# EAGLE library part 74AVC4T245 (library NXP)
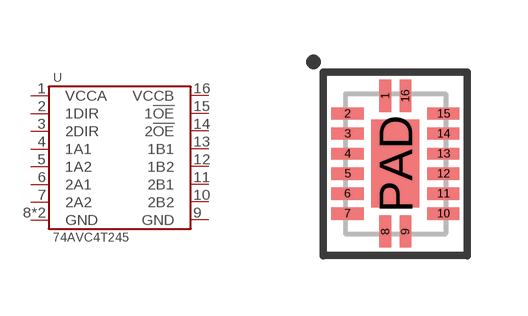
[diagram p14: symbol with the pads of VFQFN-16-2.5X3.5; footprint VFQFN-16-2.5X3.5]

Designator prefix U

## 74AVC4T245BQ,115  [VFQFN-16-2.5X3.5]
1  VCCA
2  1DIR
3  2DIR
4  1A1
5  1A2
6  2A1
7  2A2
8  GND
9  GND
10  2B2
11  2B1
12  1B2
13  1B1
14  2!OE!
15  1!OE!
16  VCCB
PAD  GND

## Footprint VFQFN-16-2.5X3.5 (pad centres in mm)
smd 0.3 x 0.8: 1 -0.25,1.7; 8 -0.25,-1.7; 9 0.25,-1.7; 16 0.25,1.7
smd 0.8 x 0.3: 2 -1.2,1.25; 3 -1.2,0.75; 4 -1.2,0.25; 5 -1.2,-0.25; 6 -1.2,-0.75; 7 -1.2,-1.25; 10 1.2,-1.25; 11 1.2,-0.75; 12 1.2,-0.25; 13 1.2,0.25; 14 1.2,0.75; 15 1.2,1.25
smd 1.2 x 2.2: PAD 0,0